# Altium footprint library SOP8.PcbLib: 1 footprints
Each footprint in its own frame and in the unit in brackets; x right, y up, seen from the top. Pads: shape width x height; smd on the part's side, far side on the other; paste and mask are expansions set on the pad; w line width, h text height; cw(c..) or ccw(c..) is an arc to the next point about the centre after c.
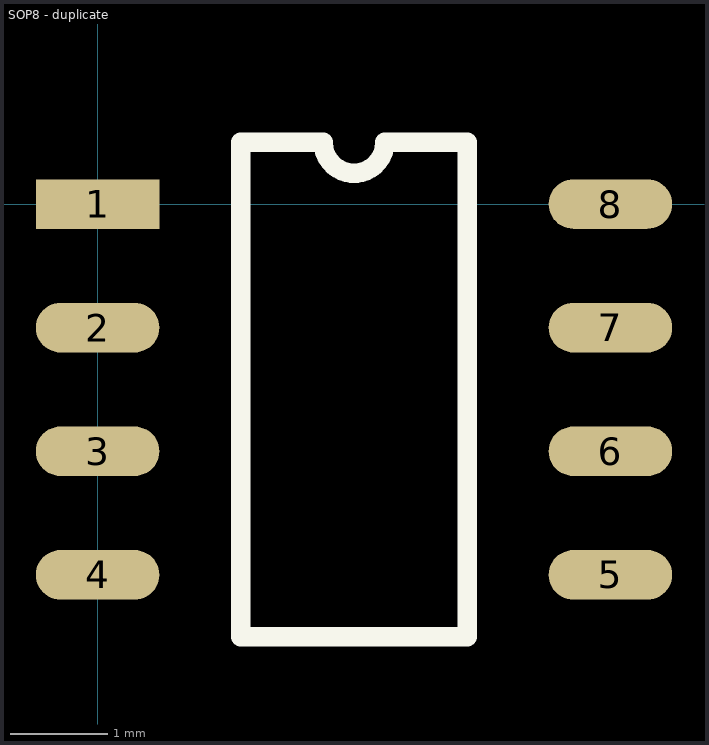
[diagram p0: the footprint, top view; thin cyan lines are the x and y axes]

## SOP8 - duplicate [mm]
pads (8):
  rect 1.27x0.51 smd: 1(0,0)
  oval 1.27x0.51 smd: 2(0,-1.27) 3(0,-2.54) 4(0,-3.81) 5(5.27,-3.81) 6(5.27,-2.54) 7(5.27,-1.27) 8(5.27,0)
Top Overlay:
  lines w0.2: 1.47,-4.445 3.8,-4.445 3.8,0.635 2.952,0.635 cw(c2.635,0.635) 2.317,0.635 1.47,0.635 1.47,-4.445